# Altium schematic symbol library Mezeq_ICs.SchLib: 18 symbols
Pins are listed as number, name and electrical type; pins without a type are passive.

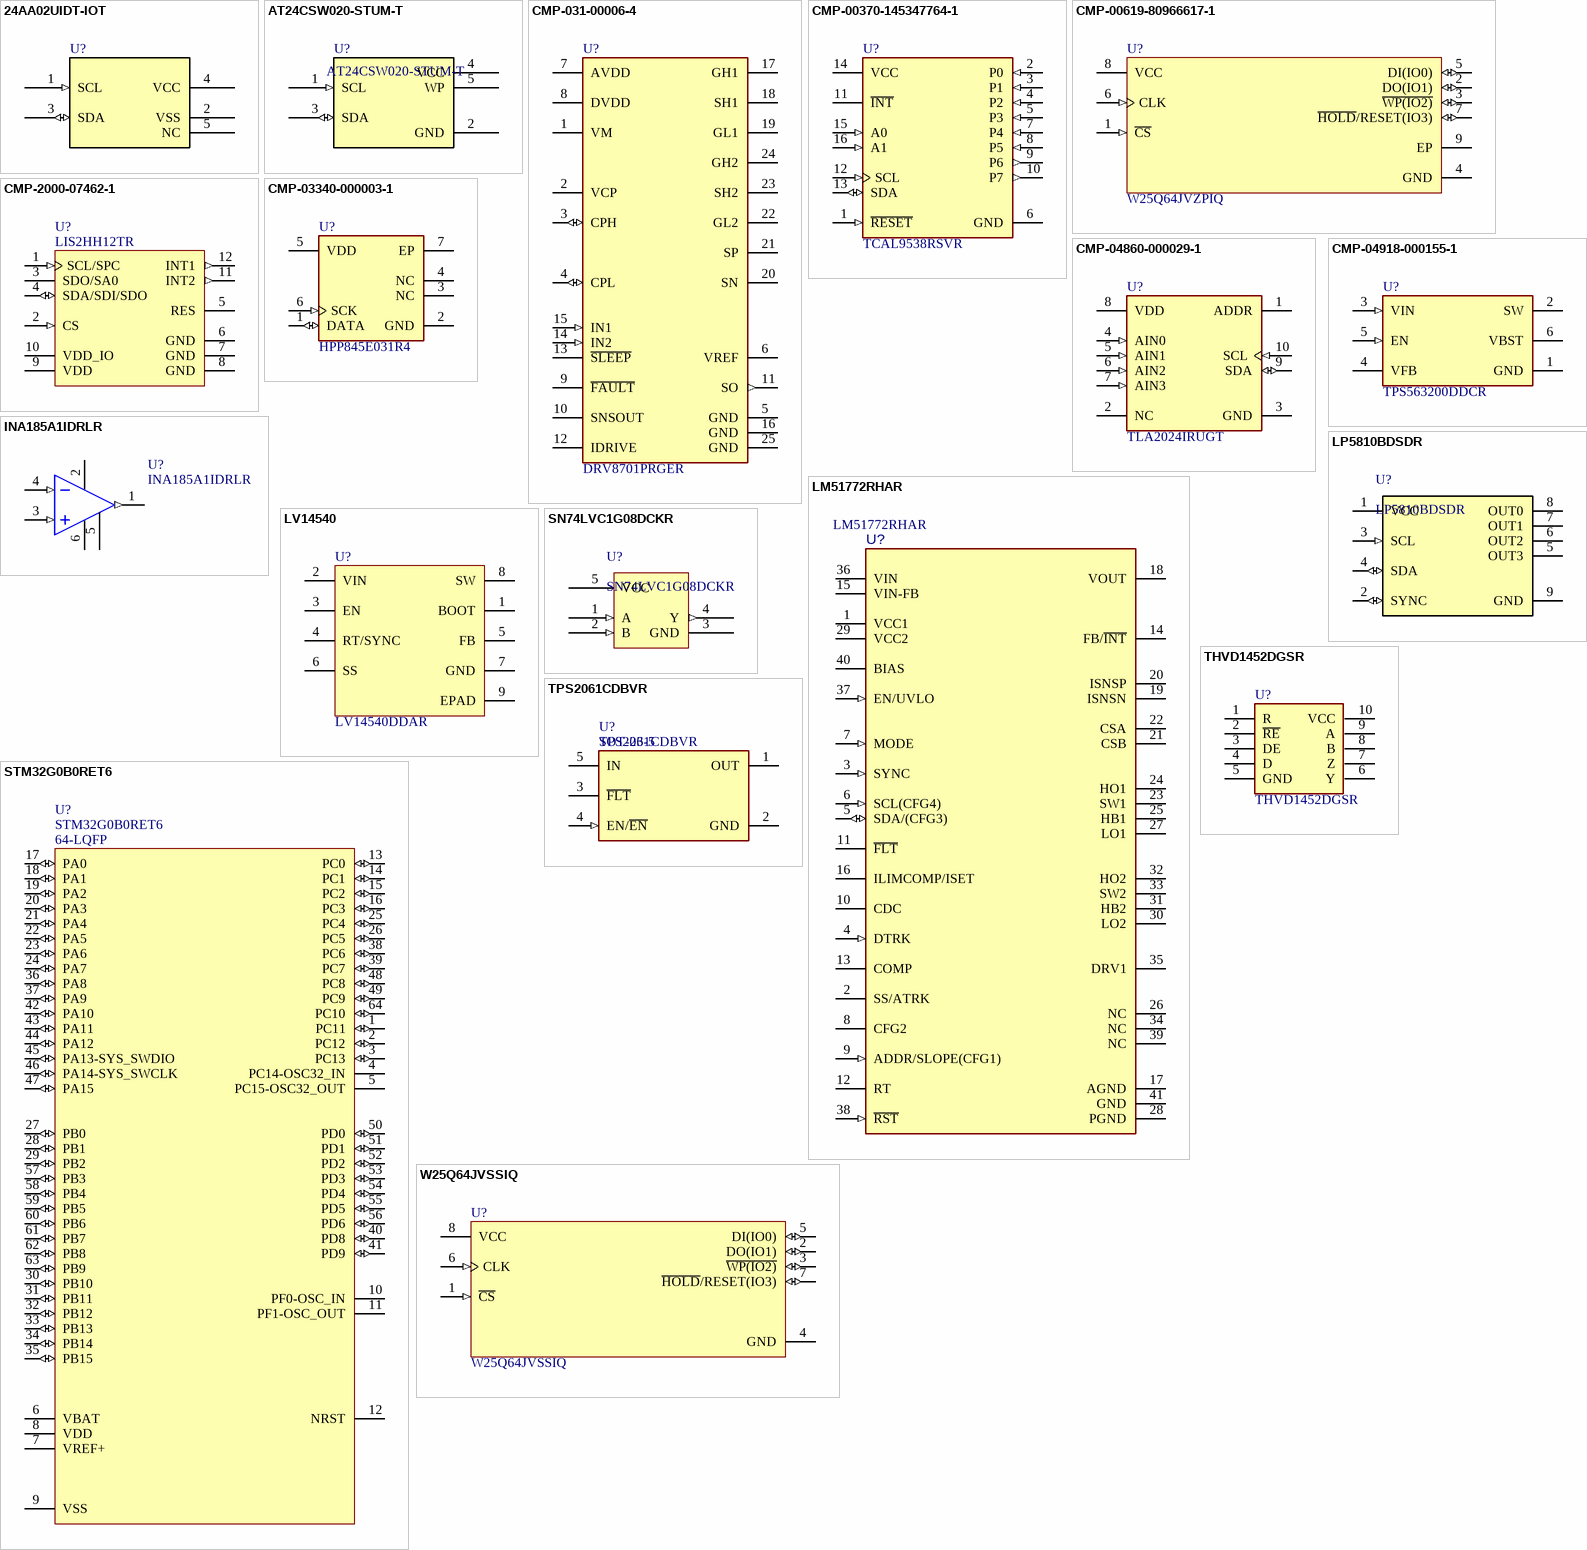
[diagram p0: symbols 24AA02UIDT-IOT to W25Q64JVSSIQ]

## 24AA02UIDT-IOT
designator U?
IC EEPROM 2KBIT I2C SOT23-5; Manufacturer 1: Microchip Technology; Manufacturer Part Number 1: 24AA02UIDT-I/OT; Supplier 1: Digikey; Supplier Part Number 1: 24AA02UIDT-I/OTCT-ND
footprint SOT-23-5_MC_MCH (5-Lead Plastic Small Outline Transistor (OT) [SOT-23] MICROCHIP)
pins: 1 SCL (in), 2 VSS (power), 3 SDA (io), 4 VCC (power), 5 NC

## AT24CSW020-STUM-T
designator U?
IC EEPROM 2KBIT I2C TSOT23-5; Manufacturer 1: Microchip Technology; Manufacturer Part Number 1: AT24CSW020-STUM-T; Supplier 1: Digikey; Supplier Part Number 1: 150-AT24CSW020-STUM-TCT-ND
footprint SOT-23-5_MC_MCH (5-Lead Plastic Small Outline Transistor (OT) [SOT-23] MICROCHIP)
pins: 1 SCL (in), 2 GND (power), 3 SDA (io), 4 VCC (power), 5 WP

## CMP-031-00006-4
designator U?, comment DRV8701PRGER
Motor Driver Power MOSFET PWM 24-VQFN (4x4); Manufacturer 1: Texas Instruments; Max Operating Temperature: 125°C; Packaging: Tape and Reel; Lead Free: Lead Free; Component Type: Standard; Mount: Surface Mount; Min Operating Temperature: -40°C; Design Item ID: CMP-04915-000037-1; Interface: PWM; RoHS Compliant: Yes; Source: Components - 04.06.25 - 15.55.SchLib; Case/Package: VQFN; Pins: 25; Component Type: Integrated Circuits; Manufacturer Part Number 1: DRV8701PRGER; Supplier 1: Digikey; Supplier Part Number 1: 296-46293-1-ND
footprint FP-RGE0024F-IPC_B
footprint FP-RGE0024F-IPC_A
footprint FP-RGE0024F-IPC_C
footprint FP-RGE0024F-MFG
pins: 1 VM, 2 VCP, 3 CPH (io), 4 CPL (io), 5 GND (power), 6 VREF, 7 AVDD (power), 8 DVDD (power), 9 ~{FAULT}, 10 SNSOUT, 11 SO (out), 12 IDRIVE, 13 ~{SLEEP}, 14 IN2 (in), 15 IN1 (in), 16 GND (power), 17 GH1, 18 SH1, 19 GL1, 20 SN, 21 SP, 22 GL2, 23 SH2, 24 GH2, 25 GND (power)

## CMP-00370-145347764-1
designator U?, comment TCAL9538RSVR
I/O Expander 8 I2C, SMBus 1 MHz 16-UQFN (2.6x1.8); NexarPartId: 145347764; Manufacturer Lifecycle Status: ACTIVE; Manufacturer 1: Texas Instruments; Height: 550µm; Lifecycle Status: Production; Thickness: 500µm; Length: 2.6mm; Width: 1.8mm; Number of Pins: 16; Manufacturer Part Number 1: TCAL9538RSVR; Supplier 1: Digikey; Supplier Part Number 1: 296-TCAL9538RSVRCT-ND
footprint FP-RSV0016A-MFG
pins: 1 ~{RESET} (in), 2 P0 (in), 3 P1 (in), 4 P2 (in), 5 P3 (in), 6 GND (power), 7 P4 (in), 8 P5 (in), 9 P6 (out), 10 P7 (out), 11 ~{INT} (oc), 12 SCL (in), 13 SDA (io), 14 VCC (power), 15 A0 (in), 16 A1 (in)

## CMP-00619-80966617-1
designator U?, comment W25Q64JVZPIQ
FLASH - NOR Memory IC 64Mbit SPI - Quad I/O 133 MHz 6 ns 8-WSON (6x5); NexarPartId: 80966617; Manufacturer 1: Winbond Electronics; Memory Size: 8MB; Max Supply Voltage: 3.6V; Min Supply Voltage: 2.7V; Frequency: 133MHz; Access Time: 6ns; Memory Type: FLASH; Height: 800µm; Max Operating Temperature: 85°C; Interface: SPI; Ambient Temperature Range High: 85°C; Min Operating Temperature: -40°C; Schedule B: 8542320070, 8542320070; RoHS: Non-Compliant; Manufacturer Part Number 1: W25Q64JVZPIQ; Supplier 1: Digikey; Supplier Part Number 1: 256-W25Q64JVZPIQ-ND
footprint FP-ZP-MFG
footprint FP-ZP-IPC_A
footprint FP-ZP-IPC_B
footprint FP-ZP-IPC_C
pins: 1 ~{CS} (in), 2 DO(IO1) (io), 3 ~{WP(IO2)} (io), 4 GND (power), 5 DI(IO0) (io), 6 CLK (in), 7 ~{HOLD}/RESET(IO3) (io), 8 VCC (power), 9 EP (power)

## CMP-2000-07462-1
designator U?, comment LIS2HH12TR
Accelerometer X, Y, Z Axis ±2g, 4g, 8g 5Hz ~ 400Hz 12-LGA (2x2); Manufacturer: STMicroelectronics; Case\/Package: LGA; Package Description: 12-Pin Land Grid Array Package, Body 2 x 2 mm, Pitch 0.5 mm; Bandwidth: 400Hz; Manufacturer URL: http://www.st.com/; Lead Free: LeadFree; RoHSCompliant: true; Min Operating Temperature: -40degC; Mounting Technology: SurfaceMount; Packaging: TapeandReel; Max Operating Temperature: 85degC; Mount: SurfaceMount; Number of Pins: 12; Datasheet URL: http://www.st.com/content/ccc/resource/technical/document/datasheet/c9/16/f2/79/ca/31/47/89/DM00096789.pdf/files/DM00096789.pdf/jcr:content/translations/en.DM00096789.pdf; Contact Plating: Gold; Package Reference: LGA-12; Datasheet Version: Rev. 5, 12/2015; Manufacturer 1: STMicroelectronics; Manufacturer Part Number 1: LIS2HH12TR; Supplier 1: Digikey; Supplier Part Number 1: 497-15069-1-ND
footprint STM-LGA-12 (LGA, 12-Leads, Body 2x2mm, Pitch 0.5mm)
pins: 1 SCL/SPC (in), 2 CS (in) "SPI enable I2C/SPI mode selection (1: SPI idle mode / I2C communication enabled; 0: SPI communication mode / I2C disabled)", 3 SDO/SA0, 4 SDA/SDI/SDO (io), 5 RES "Connect to GND", 6 GND (power) "0 V supply", 7 GND (power) "0 V supply", 8 GND (power) "0 V supply", 9 VDD (power) "Power supply", 10 VDD_IO (power) "Power supply for I/O pins", 11 INT2 (out) "Interrupt pin 2", 12 INT1 (out) "Interrupt pin 1"

## CMP-03340-000003-1
designator U?, comment HPP845E031R4
Humidity, Temperature 0 ~ 100% RH I2C ±2% RH 5 s Surface Mount; Manufacturer: TE; Manufacturer Part Number: HTU21D; Manufacturer 1: TE Connectivity Measurement Specialties; Operating Supply Current: 450uA; Max Supply Voltage: 3.6V; Min Supply Voltage: 1.5V; Interface: I2C,2-Wire; Category: IC; Automotive: No; ComponentLink2Description: Datasheet; Height: 1mm; Device Class L3: unset; Octopart: https://octopart.com/htu21d-te+connectivity-61614170; Device Class L1: Sensors; Temperature Range Low: -40°C; Ambient Temperature Range High: +125°C; Ambient Temperature Range Low: -40°C; Temperature Range High: +125°C; Lead Free: Yes; Package: 0; Ipc Land Pattern Name: DFN300X300X90-6; Temperature: -40°C to +125°C; ComponentLink2URL: https://www.te.com/commerce/DocumentDelivery/DDEController?Action=showdoc&DocId=Data+Sheet%7FHPC199_6%7FA6%7Fpdf%7FEnglish%7FENG_DS_HPC199_6_A6.pdf%7FCAT-HSC0004; RoHS: TRUE; Device Class L2: Temperature and Humidity Sensors; Sensor Output: I2C; Accuracy: 2%; Manufacturer Part Number 1: HPP845E031R4; Supplier 1: Digikey; Supplier Part Number 1: 223-1144-1-ND
footprint FP-HTU21D-MFG
footprint FP-HTU21D-IPC_C
footprint FP-HTU21D-IPC_B
footprint FP-HTU21D-IPC_A
pins: 1 DATA (io), 2 GND (power), 3 NC, 4 NC, 5 VDD (power), 6 SCK (in), 7 EP (power)

## CMP-04860-000029-1
designator U?, comment TLA2024IRUGT
12 Bit Analog to Digital Converter 4 Input 1 Sigma-Delta 10-X2QFN (2x1.5); Manufacturer 1: Texas Instruments; Number of Inputs: 4; Number of Bits: 12; Interface: I2C; Sampling Rate: 3300S/s; Number of A/D Converters: 1; RoHS Compliant: Yes; Max Operating Temperature: 85°C; Min Operating Temperature: -40°C; Packaging: Cut Tape; Manufacturer Part Number 1: TLA2024IRUGT; Supplier 1: Digikey; Supplier Part Number 1: 296-48346-1-ND
footprint FP-RUG0010A-MFG
pins: 1 ADDR (power), 2 NC, 3 GND (power), 4 AIN0 (in), 5 AIN1 (in), 6 AIN2 (in), 7 AIN3 (in), 8 VDD (power), 9 SDA (io), 10 SCL (in)

## CMP-04918-000155-1
designator U?, comment TPS563200DDCR
Buck Switching Regulator IC Positive Adjustable 0.76V 1 Output 3A SOT-23-6 Thin, TSOT-23-6; Manufacturer 1: Texas Instruments; Quiescent Current: 190uA; Output Voltage: 7V; Min Input Voltage: 4.5V; Number of Outputs: 1; Switching Frequency: 650kHz; Synchronous Rectifier: Yes; Min Output Voltage: 760mV; Operating Supply Voltage: 17V; Max Operating Temperature: 125°C; Lead Free: Lead Free; Output Configuration: Positive; Packaging: Tape and Reel; Radiation Hardening: No; Mount: Surface Mount; Contact Plating: Tin; Output Current: 3A; Max Output Voltage: 7V; Output Type: Adjustable; Min Operating Temperature: -40°C; Case/Package: SOT-23-6; Max Output Current: 3A; Max Input Voltage: 17V; Manufacturer Part Number 1: TPS563200DDCR; Supplier 1: Digikey; Supplier Part Number 1: 296-43663-1-ND
footprint FP-DDC0006A-MFG
footprint FP-DDC0006A-IPC_A
footprint FP-DDC0006A-IPC_B
footprint FP-DDC0006A-IPC_C
pins: 1 GND (power), 2 SW, 3 VIN (in), 4 VFB, 5 EN (in), 6 VBST

## INA185A1IDRLR
designator U?
Current Sense Amplifier 1 Circuit Rail-to-Rail SOT-563; Manufacturer 1: Texas Instruments; Supplier 1: Digikey; Supplier Part Number 1: 296-INA185A1IDRLRCT-ND; Manufacturer Part Number 1: INA185A1IDRLR
footprint INA185A1IDRLR
pins: 1 VOUT (out) "Noninverting amplifier output", 2 gnd (power) "Amplifier negative power-supply input. Note that VS- is tied together on multi-channel devices.", 3 VIN+ (in) "Noninverting amplifier input", 4 VIN- (in) "Inverting amplifier input", 5 VREF (power) "Amplifier positive power-supply input", 6 VS+ (power) "Amplifier positive power-supply input"

## LM51772RHAR
designator U?
48-V 4 Switch Buck-Boost Controller with I2C interface; Manufacturer 1: Texas Instruments; SizeZ_mm: 1mm; AEC Qualified: No; Max Supply Voltage: 48V; Min Supply Voltage: 3.3V; Nominal Supply Current: 25uA; Number Of Outputs: 1; Output Type: AdjustableProgrammable; Output Voltage: 3.3-48V; Standoff Height: 0mm; Switching Frequency: 100-2200kHz; Switching Topology: Boost,Buck,Buck-Boost; TJmax_C: +150°C; PackageReference: VQFN40; RoHS: UNKNOWN; Operating Temperature Range: -40°C to +150°C; Datasheet Path: datasheets/IC-LM51772RHAR.pdf; helpURL: https://upverter.com/upn/revision/1cf1a8d362b2ff5b/; Supplier 1: Digikey; Supplier Part Number 1: 296-LM51772RHARCT-ND; Manufacturer Part Number 1: LM51772RHAR
footprint RHA0040P-MFG
pins: 1 VCC1, 2 SS/ATRK, 3 SYNC (in), 4 DTRK (in), 5 SDA/(CFG3) (io), 6 SCL(CFG4) (in), 7 MODE (in), 8 CFG2, 9 ADDR/SLOPE(CFG1) (in), 10 CDC, 11 ~{FLT} (oc), 12 RT, 13 COMP, 14 FB/~{INT}, 15 VIN-FB, 16 ILIMCOMP/ISET, 17 AGND (power), 18 VOUT, 19 ISNSN, 20 ISNSP, 21 CSB, 22 CSA, 23 SW1, 24 HO1, 25 HB1, 26 NC, 27 LO1, 28 PGND (power), 29 VCC2, 30 LO2, 31 HB2, 32 HO2, 33 SW2, 34 NC, 35 DRV1, 36 VIN (power), 37 EN/UVLO (in), 38 ~{RST} (in), 39 NC, 40 BIAS, 41 GND (power)

## LP5810BDSDR
designator U?
4-channel RGBW LED driver with I2C and auto animation control 8-SON -40 to 85; Manufacturer 1: Texas Instruments; Manufacturer Part Number 1: LP5810BDSDR; Supplier 1: Digikey; Supplier Part Number 1: 296-LP5810BDSDRCT-ND
footprint DSD0008B-IPC_A
pins: 1 VCC (power), 2 SYNC (io), 3 SCL (in), 4 SDA (io), 5 OUT3, 6 OUT2, 7 OUT1, 8 OUT0, 9 GND (power)

## LV14540
designator U?, comment LV14540DDAR
Buck Switching Regulator IC Positive Adjustable 0.8V 1 Output 5A 8-PowerSOIC (0.154", 3.90mm Width); Manufacturer 1: Texas Instruments; Supplier 1: Digikey; Supplier Part Number 1: 296-LV14540DDAR-ND; Manufacturer Part Number 1: LV14540DDAR
footprint HSOIC8
pins: 1 BOOT (power), 2 VIN (power), 3 EN (power), 4 RT/SYNC (power), 5 FB (power), 6 SS (power), 7 GND (power), 8 SW (power), 9 EPAD (power)

## SN74LVC1G08DCKR
designator U?
IC GATE AND 1CH 2-INP SC70-5; Manufacturer 1: Texas Instruments; Manufacturer Part Number 1: SN74LVC1G08DCKR; Supplier 1: Digikey; Supplier Part Number 1: 296-11602-1-ND
footprint FP-DBV0005A-IPC_C
pins: 1 A (in), 2 B (in), 3 GND (power), 4 Y (out), 5 VCC (power)

## STM32G0B0RET6
designator U?  Case/Package: 64-LQFP
ARM® Cortex®-M0+ STM32G0 Microcontroller IC 32-Bit Single-Core 64MHz 512KB (512K x 8) FLASH 64-LQFP (10x10); Manufacturer 1: STMicroelectronics; Manufacturer Part Number 1: STM32G0B0RET6; Supplier 1: Digikey; Supplier Part Number 1: 497-STM32G0B0RET6-ND
footprint 64-LQFP
pins: 1 PC11 (io), 2 PC12 (io), 3 PC13 (io), 4 PC14-OSC32_IN, 5 PC15-OSC32_OUT, 6 VBAT (power), 7 VREF+ (power), 8 VDD (power), 9 VSS (power), 10 PF0-OSC_IN, 11 PF1-OSC_OUT, 12 NRST, 13 PC0 (io), 14 PC1 (io), 15 PC2 (io), 16 PC3 (io), 17 PA0 (io), 18 PA1 (io), 19 PA2 (io), 20 PA3 (io), 21 PA4 (io), 22 PA5 (io), 23 PA6 (io), 24 PA7 (io), 25 PC4 (io), 26 PC5 (io), 27 PB0 (io), 28 PB1 (io), 29 PB2 (io), 30 PB10 (io), 31 PB11 (io), 32 PB12 (io), 33 PB13 (io), 34 PB14 (io), 35 PB15 (io), 36 PA8 (io), 37 PA9 (io), 38 PC6 (io), 39 PC7 (io), 40 PD8 (io), 41 PD9 (io), 42 PA10 (io), 43 PA11 (io), 44 PA12 (io), 45 PA13-SYS_SWDIO (io), 46 PA14-SYS_SWCLK (io), 47 PA15 (io), 48 PC8 (io), 49 PC9 (io), 50 PD0 (io), 51 PD1 (io), 52 PD2 (io), 53 PD3 (io), 54 PD4 (io), 55 PD5 (io), 56 PD6 (io), 57 PB3 (io), 58 PB4 (io), 59 PB5 (io), 60 PB6 (io), 61 PB7 (io), 62 PB8 (io), 63 PB9 (io), 64 PC10 (io)

## THVD1452DGSR
designator U?
IC TRANSCEIVER FULL 1/1 10VSSOP; Manufacturer 1: Texas Instruments; Manufacturer Part Number 1: THVD1452DGSR; Supplier 1: Digikey; Supplier Part Number 1: 296-THVD1452DGSRCT-ND
footprint SOP50P490X110-10N
pins: 1 R, 2 ~{RE}, 3 DE, 4 D, 5 GND, 6 Y, 7 Z, 8 B, 9 A, 10 VCC

## TPS2061CDBVR
designator U?  Case/Package: SOT-23-5
Power Switch/Driver 1:1 N-Channel 1A SOT-23-5; Manufacturer 1: Texas Instruments; Manufacturer Part Number 1: TPS2061CDBVR; Supplier 1: Digikey; Supplier Part Number 1: 296-39352-6-ND
footprint FP-DBV0005A-IPC_C
pins: 1 OUT (power), 2 GND (power), 3 ~{FLT} (oe), 4 EN/~{EN} (in), 5 IN (power)

## W25Q64JVSSIQ
designator U?
FLASH - NOR Memory IC 64Mbit SPI - Quad I/O 133 MHz 8-SOIC; Manufacturer 1: Winbond Electronics; Memory Size: 8MB; Max Supply Voltage: 3.6V; Min Supply Voltage: 2.7V; Frequency: 133MHz; Access Time: 6ns; Memory Type: FLASH; Height: 800µm; Max Operating Temperature: 85°C; Interface: SPI; Ambient Temperature Range High: 85°C; Min Operating Temperature: -40°C; Manufacturer Part Number 1: W25Q64JVSSIQ; Supplier 1: Digikey; Supplier Part Number 1: W25Q64JVSSIQ-ND; Manufacturer 2: Renesas; Manufacturer Part Number 2: AT25SF641B-SHB-T; Supplier 2: Digikey; Supplier Part Number 2: 1265-AT25SF641B-SHB-TCT-ND
footprint SOIC-8_5P28X5P28_WIN (8-Pin SOIC 208-mil (Package Code SS))
pins: 1 ~{CS} (in), 2 DO(IO1) (io), 3 ~{WP(IO2)} (io), 4 GND (power), 5 DI(IO0) (io), 6 CLK (in), 7 ~{HOLD}/RESET(IO3) (io), 8 VCC (power)